# Altium integrated library saw.IntLib: 3 symbols
Pins are listed as number, name and electrical type; pins without a type are passive.

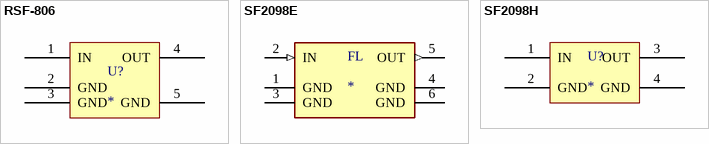
[diagram p0: symbols RSF-806 to SF2098H]

## RSF-806
designator U?
BAND 20 RF SAW FILTER / RSF-806.000-30000-1109-TR-NS1
footprint RSF-806.000 (5-Leads, Body 0.90x1.10mm, Pitch 0.50mm, IPC Medium Density)
pins: 1 IN, 2 GND, 3 GND, 4 OUT, 5 GND

## SF2098E
designator FL
915MHz Frequency Wireless RF SAW Filter (Sound Acoustic Wave) 1.9dB 26MHz Bandwidth 6-SMD, No Lead; MF: Murata Electronics; MP: SF2098E; Mouser-Purchase-URL: https://snapeda.com/shop?store=Mouser&id=2722455; Price: None; SnapEDA_Link: https://www.snapeda.com/parts/SF2098E/Murata%20Electronics%20North%20America/view-part/2722455/?ref=snap; Arrow_Electronics-Purchase-URL: https://snapeda.com/shop?store=Arrow+Electronics&id=2722455; DigiKey-Purchase-URL: https://snapeda.com/shop?store=DigiKey&id=2722455; Value: *; Availability: Good; Package: SMD-6 Murata
footprint FIL_SF2098E (SAW Filter SM3030-6)
pins: 1 GND (power), 2 IN (in), 3 GND (power), 4 GND (power), 5 OUT (out), 6 GND (power)

## SF2098H
designator U?
RFMi 915 MHz SAW Filter
footprint SF2098H (RFMi 915 MHz  SAW Filter)
pins: 1 IN, 2 GND, 3 OUT, 4 GND